# EAGLE library part MOLEX_MICROFIT_2X5 (library board_connectivity)
Micro-Fit 3.0 Right-Angle Header, 3.00mm Pitch, Dual Row, 10 Circuits, with Snap-in Plastic Peg PCB Lock
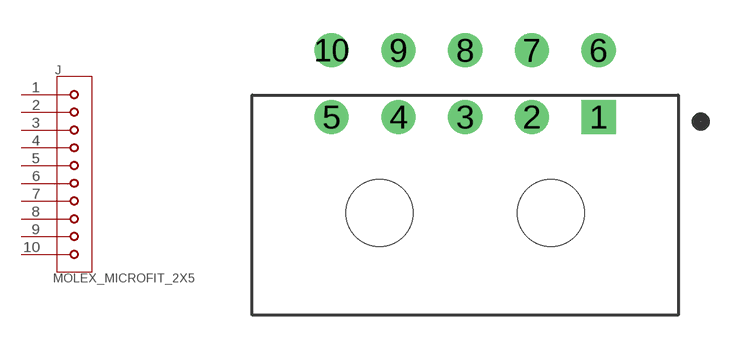
[diagram p1: symbol with the pads of 43045-1000; footprint 43045-1000]

Designator prefix J

## MOLEX_MICROFIT_2X5 (MF: Molex; MP: 43045-1000; VALUE: 43045-1000)  [43045-1000]
1  1
2  2
3  3
4  4
5  5
6  6
7  7
8  8
9  9
10  10

## Footprint 43045-1000 (pad centres in mm)
drill 1.02 square: 1 6,0
drill 1.02: 2 3,0; 3 0,0; 4 -3,0; 5 -6,0; 6 6,3; 7 3,3; 8 0,3; 9 -3,3; 10 -6,3
hole 3 at 3.85,-4.32
hole 3 at -3.85,-4.32